# EAGLE library part PIC16F914 (library PIC16F914)
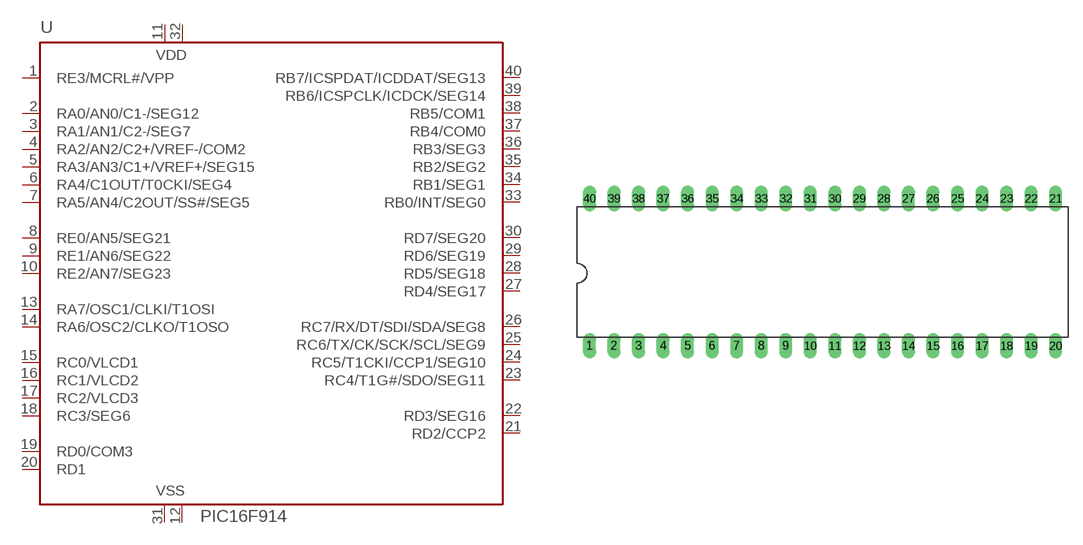
[diagram p0: symbol with the pads of DIL40; footprint DIL40]

Designator prefix -

## PIC16F914  [DIL40]
1  RE3/MCRL#/VPP  in
2  RA0/AN0/C1-/SEG12
3  RA1/AN1/C2-/SEG7
4  RA2/AN2/C2+/VREF-/COM2
5  RA3/AN3/C1+/VREF+/SEG15
6  RA4/C1OUT/T0CKI/SEG4
7  RA5/AN4/C2OUT/SS#/SEG5
8  RE0/AN5/SEG21
9  RE1/AN6/SEG22
10  RE2/AN7/SEG23
11  VDD  pwr
12  VSS  pwr
13  RA7/OSC1/CLKI/T1OSI
14  RA6/OSC2/CLKO/T1OSO
15  RC0/VLCD1
16  RC1/VLCD2
17  RC2/VLCD3
18  RC3/SEG6
19  RD0/COM3
20  RD1
21  RD2/CCP2
22  RD3/SEG16
23  RC4/T1G#/SDO/SEG11
24  RC5/T1CKI/CCP1/SEG10
25  RC6/TX/CK/SCK/SCL/SEG9
26  RC7/RX/DT/SDI/SDA/SEG8
27  RD4/SEG17
28  RD5/SEG18
29  RD6/SEG19
30  RD7/SEG20
31  VSS  pwr
32  VDD  pwr
33  RB0/INT/SEG0
34  RB1/SEG1
35  RB2/SEG2
36  RB3/SEG3
37  RB4/COM0
38  RB5/COM1
39  RB6/ICSPCLK/ICDCK/SEG14
40  RB7/ICSPDAT/ICDDAT/SEG13

## Footprint DIL40 (pad centres in mm)
drill 0.813 long: 1 -24.13,-7.62; 2 -21.59,-7.62; 3 -19.05,-7.62; 4 -16.51,-7.62; 5 -13.97,-7.62; 6 -11.43,-7.62; 7 -8.89,-7.62; 8 -6.35,-7.62; 9 -3.81,-7.62; 10 -1.27,-7.62; 11 1.27,-7.62; 12 3.81,-7.62; 13 6.35,-7.62; 14 8.89,-7.62; 15 11.43,-7.62; 16 13.97,-7.62; 17 16.51,-7.62; 18 19.05,-7.62; 19 21.59,-7.62; 20 24.13,-7.62; 21 24.13,7.62; 22 21.59,7.62; 23 19.05,7.62; 24 16.51,7.62; 25 13.97,7.62; 26 11.43,7.62; 27 8.89,7.62; 28 6.35,7.62; 29 3.81,7.62; 30 1.27,7.62; 31 -1.27,7.62; 32 -3.81,7.62; 33 -6.35,7.62; 34 -8.89,7.62; 35 -11.43,7.62; 36 -13.97,7.62; 37 -16.51,7.62; 38 -19.05,7.62; 39 -21.59,7.62; 40 -24.13,7.62